# Altium footprint library Altium_USB3.0_Connector.PcbLib: 6 footprints
Each footprint in its own frame and in the unit in brackets; x right, y up, seen from the top. Pads: shape width x height; smd on the part's side, far side on the other; paste and mask are expansions set on the pad; w line width, h text height; cw(c..) or ccw(c..) is an arc to the next point about the centre after c.
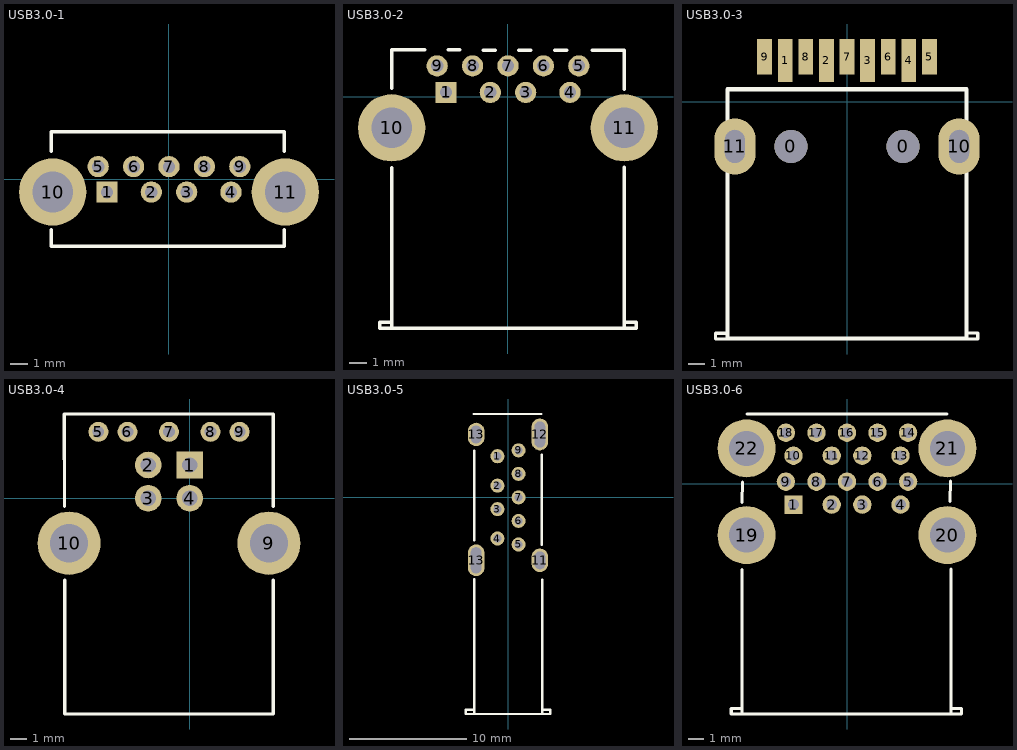
[diagram p0: the footprints below, top view; thin cyan lines are the x and y axes]

## USB3.0-1 [mm] "Connector; USB1.1, Type A, Thru-Hole; 4 Position; Vertical"
height 15
pads (11):
  rect 1.2x1.2 hole 0.7: 1(-3.5,-0.72)
  round 1.2 hole 0.7: 2(-1,-0.72) 3(1,-0.72) 4(3.5,-0.72) 5(-4,0.72) 6(-2,0.72) 7(0,0.72) 8(2,0.72) 9(4,0.72)
  round 3.8 hole 2.3: 10(-6.57,-0.72) 11(6.57,-0.72)
Top Overlay:
  lines w0.2: -6.644,1.594 -6.644,2.674 6.499,2.681 6.499,1.594 ; -6.64,-2.853 -6.64,-3.775 6.519,-3.768 6.519,-2.853
3D body "usb3_ausb3_a-top.stp": height 15, standoff -3.8, extent -7.8,-4.15 7.8,3.05

## USB3.0-2 [mm] "Connector; USB1.1, Type A, Thru-Hole; 4 Position; Right Angle"
height 7.01
pads (11):
  rect 1.2x1.2 hole 0.7: 1(-3.5,0.25)
  round 1.2 hole 0.7: 2(-1,0.25) 3(1,0.25) 4(3.5,0.25) 5(4,1.75) 6(2,1.75) 7(0,1.75) 8(-2,1.75) 9(-4,1.75)
  round 3.8 hole 2.3: 10(-6.57,-1.75) 11(6.57,-1.75)
Top Overlay:
  lines w0.2: -6.586,-13.075 6.544,-13.075 ; -6.565,-12.717 -7.25,-12.717 -7.25,-13.073 -6.565,-13.073 -6.565,-3.99 ; -6.565,0.497 -6.565,2.67 -4.7,2.67 ; -3.362,2.656 -2.722,2.656 ; -1.404,2.643 -0.724,2.643 ; 0.614,2.637 1.294,2.637 ; 2.633,2.63 3.313,2.63 ; 4.768,2.629 6.565,2.629 6.565,0.426 ; 6.565,-12.721 7.25,-12.721 7.25,-13.073 6.565,-13.073 6.565,-3.967
3D body "uj3-ah-4-th.stp": height 7.77, standoff -3.43, extent -7.828,-13.539 7.872,2.961

## USB3.0-3 [mm]
pads (13):
  round 2 hole 2: 0(-3.4,-2.722) 0(3.4,-2.722)
  rect 0.9x2.6 smd: 1(-3.75,2.498) 2(-1.25,2.498) 3(1.25,2.498) 4(3.75,2.498)
  rect 0.9x2.15 smd: 5(5,2.722) 6(2.5,2.723) 7(0,2.723) 8(-2.5,2.723) 9(-5,2.723)
  oval 2.5x3.4 hole 1.2 slot 2 at 90 deg: 10(6.8,-2.722) 11(-6.8,-2.722)
Top Overlay:
  lines w0.2: -7.291,-14.399 -7.976,-14.399 -7.976,-14.043 -7.291,-14.043 ; 7.243,-14.396 7.928,-14.396 7.928,-14.04 7.243,-14.04
  lines w0.254: -7.25,-14.372 -7.25,0.753 7.25,0.753 7.25,-14.372 -7.25,-14.372
3D body "STP_692122030100 (rev1).stp": height 7.96, standoff -2.28, extent -7.526,-14.451 7.574,3.349

## USB3.0-4 [mm] "Connector; USB1.1, Type A, Thru-Hole; 4x4 Position; Right Angle"
height 15.51
pads (11):
  rect 1.6x1.6 hole 0.92: 1(0,2)
  round 1.6 hole 0.92: 2(-2.5,2) 3(-2.5,0) 4(0,0)
  round 1.2 hole 0.7: 5(-5.5,4) 6(-3.75,4) 7(-1.25,4) 8(1.25,4) 9(3,4)
  round 3.8 hole 2.3: 9(4.77,-2.71) 10(-7.27,-2.71)
Top Overlay:
  lines w0.2: -7.549,-0.482 -7.562,5.07 5.026,5.072 5.026,-0.487 ; -7.529,-4.939 -7.529,-12.997 5.026,-12.997 5.026,-4.922
3D body "Download_STP_692221030100 (rev1).stp": height 12.95, standoff -3.18, extent -8.411,-13.006 5.988,5.294

## USB3.0-5 [mm] "Connector; USB1.1, Type A, Thru-Hole; 4 Position; Right Angle"
height 13.83
pads (13):
  round 1.2 hole 0.7: 1(-0.9,3.5) 2(-0.9,1) 3(-0.9,-1) 4(-0.9,-3.5) 5(0.9,-4) 6(0.9,-2) 7(0.9,0) 8(0.9,2) 9(0.9,4)
  oval 1.4x2 hole 0.9 slot 1.5 at 90 deg: 11(2.71,-5.35) 13(-2.71,5.35)
  oval 1.4x2.7 hole 0.9 slot 2.2 at 90 deg: 12(2.71,5.35) 13(-2.71,-5.35)
Top Overlay:
  lines w0.2: -2.938,7.091 2.847,7.091 ; -2.906,-18.416 -3.591,-18.416 -3.591,-18.06 -2.906,-18.06 ; -2.884,3.988 -2.874,-3.666 ; -2.88,-6.954 -2.88,-18.416 2.905,-18.416 2.905,-6.975 ; 2.857,-4.035 2.882,3.65 ; 2.904,-18.416 3.589,-18.416 3.589,-18.06 2.904,-18.06
3D body "usb3_a-usb3_a-e.stp": height 14.65, standoff -3.56, extent -3.742,-18.515 3.578,7.185

## USB3.0-6 [mm] "Connector; USB1.1, Type A, Thru-Hole; 4 Position; Right Angle"
height 7.01
pads (22):
  rect 1.2x1.2 hole 0.7: 1(-3.5,-1.35)
  round 1.2 hole 0.7: 2(-1,-1.35) 3(1,-1.35) 4(3.5,-1.35) 5(4,0.15) 6(2,0.15) 7(0,0.15) 8(-2,0.15) 9(-4,0.15) 10(-3.5,1.85) 11(-1,1.85) 12(1,1.85) 13(3.5,1.85) 14(4,3.35) 15(2,3.35) 16(0,3.35) 17(-2,3.35) 18(-4,3.35)
  round 3.8 hole 2.3: 19(-6.57,-3.35) 20(6.57,-3.35) 21(6.57,2.33) 22(-6.57,2.33)
Top Overlay:
  lines w0.2: -6.889,-15.048 -7.574,-15.048 -7.574,-14.693 -6.889,-14.693 ; -6.864,-5.59 -6.863,-15.049 6.787,-15.049 ; -6.856,-1.204 -6.843,0.136 ; -6.555,4.569 6.551,4.576 ; 6.751,-1.14 6.764,0.2 ; 6.795,-5.567 6.795,-15.049 7.485,-15.049 7.485,-14.696 6.8,-14.696
3D body "usb_3_a-usb3_a-2p.stp": height 16.12, standoff -3.5, extent -7.805,-15.131 7.785,4.569